# Altium integrated library o149086v243 Altium_WE-XTAL (rev19c).IntLib: 299 symbols (part 3 of 5)
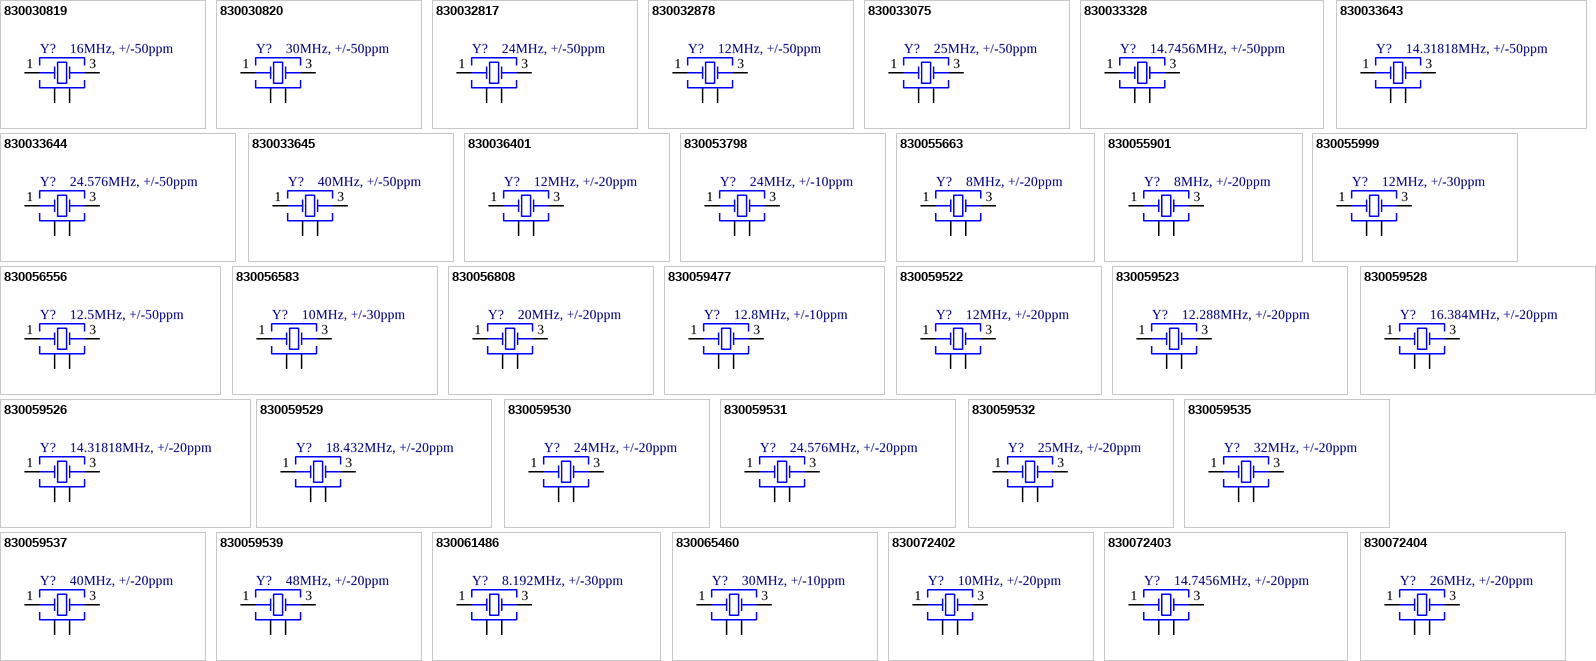
[diagram p18: symbols 830030819 to 830072404]

## 830033644
designator Y?, comment 24.576MHz, +/-50ppm
WE-XTAL Quartz Crystal, SMT, CFPX-104, 24.576MHz, +/-50ppm; Part Number: 830033644; Load Capacitance: 18pF; ComponentLink1Description: Manufacturer; ComponentLink1URL: http://www.we-online.de; ComponentLink2Description: Datasheet; ComponentLink2URL: https://katalog.we-online.com/pbs/datasheet/830033644.pdf; Operating Temperature: -10 to +60degC; Packaging: Tape and Reel; Published Date: November 2019; Size: CFPX-104; Frequency Stability: +/-50ppm; Frequency: 24.576MHz; Frequency Tolerance: +/-50ppm; Mounting Technology: SMT; Publisher: Wurth Elektronik
footprint WE-XTAL_CFPX-104
pins: 1 Crystal, 2 GND & Lid, 3 Crystal, 4 GND & Lid

## 830033645
designator Y?, comment 40MHz, +/-50ppm
WE-XTAL Quartz Crystal, SMT, CFPX-104, 40MHz, +/-50ppm; Part Number: 830033645; Load Capacitance: 18pF; ComponentLink1Description: Manufacturer; ComponentLink1URL: http://www.we-online.de; ComponentLink2Description: Datasheet; ComponentLink2URL: https://katalog.we-online.com/pbs/datasheet/830033645.pdf; Operating Temperature: -10 to +60degC; Packaging: Tape and Reel; Published Date: November 2019; Size: CFPX-104; Frequency Stability: +/-50ppm; Frequency: 40MHz; Frequency Tolerance: +/-50ppm; Mounting Technology: SMT; Publisher: Wurth Elektronik
footprint WE-XTAL_CFPX-104
pins: 1 Crystal, 2 GND & Lid, 3 Crystal, 4 GND & Lid

## 830036401
designator Y?, comment 12MHz, +/-20ppm
WE-XTAL Quartz Crystal, SMT, CFPX-104, 12MHz, +/-20ppm; Part Number: 830036401; Frequency Stability: +/-50ppm; Load Capacitance: 18pF; ComponentLink1Description: Manufacturer; ComponentLink1URL: http://www.we-online.de; ComponentLink2Description: Datasheet; ComponentLink2URL: https://katalog.we-online.com/pbs/datasheet/830036401.pdf; Operating Temperature: -20 to +70degC; Packaging: Tape and Reel; Published Date: November 2019; Size: CFPX-104; Frequency: 12MHz; Frequency Tolerance: +/-20ppm; Mounting Technology: SMT; Publisher: Wurth Elektronik
footprint WE-XTAL_CFPX-104
pins: 1 Crystal, 2 GND & Lid, 3 Crystal, 4 GND & Lid

## 830053798
designator Y?, comment 24MHz, +/-10ppm
WE-XTAL Quartz Crystal, SMT, CFPX-104, 24MHz, +/-10ppm; Part Number: 830053798; Frequency Stability: +/-25ppm; Load Capacitance: 18pF; ComponentLink1Description: Manufacturer; ComponentLink1URL: http://www.we-online.de; ComponentLink2Description: Datasheet; ComponentLink2URL: https://katalog.we-online.com/pbs/datasheet/830053798.pdf; Operating Temperature: -40 to +85degC; Packaging: Tape and Reel; Published Date: November 2019; Size: CFPX-104; Frequency: 24MHz; Frequency Tolerance: +/-10ppm; Mounting Technology: SMT; Publisher: Wurth Elektronik
footprint WE-XTAL_CFPX-104
pins: 1 Crystal, 2 GND & Lid, 3 Crystal, 4 GND & Lid

## 830055663
designator Y?, comment 8MHz, +/-20ppm
WE-XTAL Quartz Crystal, SMT, CFPX-104, 8MHz, +/-20ppm; Part Number: 830055663; Frequency Stability: +/-30ppm; Load Capacitance: 18pF; ComponentLink1Description: Manufacturer; ComponentLink1URL: http://www.we-online.de; ComponentLink2Description: Datasheet; ComponentLink2URL: https://katalog.we-online.com/pbs/datasheet/830055663.pdf; Operating Temperature: -40 to +85degC; Packaging: Tape and Reel; Published Date: November 2019; Size: CFPX-104; Frequency: 8MHz; Frequency Tolerance: +/-20ppm; Mounting Technology: SMT; Publisher: Wurth Elektronik
footprint WE-XTAL_CFPX-104
pins: 1 Crystal, 2 GND & Lid, 3 Crystal, 4 GND & Lid

## 830055901
designator Y?, comment 8MHz, +/-20ppm
WE-XTAL Quartz Crystal, SMT, CFPX-104, 8MHz, +/-20ppm; Part Number: 830055901; Frequency Stability: +/-50ppm; Load Capacitance: 18pF; ComponentLink1Description: Manufacturer; ComponentLink1URL: http://www.we-online.de; ComponentLink2Description: Datasheet; ComponentLink2URL: https://katalog.we-online.com/pbs/datasheet/830055901.pdf; Operating Temperature: -20 to +70degC; Packaging: Tape and Reel; Published Date: November 2019; Size: CFPX-104; Frequency: 8MHz; Frequency Tolerance: +/-20ppm; Mounting Technology: SMT; Publisher: Wurth Elektronik
footprint WE-XTAL_CFPX-104
pins: 1 Crystal, 2 GND & Lid, 3 Crystal, 4 GND & Lid

## 830055999
designator Y?, comment 12MHz, +/-30ppm
WE-XTAL Quartz Crystal, SMT, CFPX-104, 12MHz, +/-30ppm; Part Number: 830055999; Load Capacitance: 18pF; ComponentLink1Description: Manufacturer; ComponentLink1URL: http://www.we-online.de; ComponentLink2Description: Datasheet; ComponentLink2URL: https://katalog.we-online.com/pbs/datasheet/830055999.pdf; Operating Temperature: -40 to +85degC; Packaging: Tape and Reel; Published Date: November 2019; Size: CFPX-104; Frequency Stability: +/-30ppm; Frequency: 12MHz; Frequency Tolerance: +/-30ppm; Mounting Technology: SMT; Publisher: Wurth Elektronik
footprint WE-XTAL_CFPX-104
pins: 1 Crystal, 2 GND & Lid, 3 Crystal, 4 GND & Lid

## 830056556
designator Y?, comment 12.5MHz, +/-50ppm
WE-XTAL Quartz Crystal, SMT, CFPX-104, 12.5MHz, +/-50ppm; Part Number: 830056556; Load Capacitance: 18pF; ComponentLink1Description: Manufacturer; ComponentLink1URL: http://www.we-online.de; ComponentLink2Description: Datasheet; ComponentLink2URL: https://katalog.we-online.com/pbs/datasheet/830056556.pdf; Operating Temperature: -40 to +85degC; Packaging: Tape and Reel; Published Date: November 2019; Size: CFPX-104; Frequency Stability: +/-50ppm; Frequency: 12.5MHz; Frequency Tolerance: +/-50ppm; Mounting Technology: SMT; Publisher: Wurth Elektronik
footprint WE-XTAL_CFPX-104
pins: 1 Crystal, 2 GND & Lid, 3 Crystal, 4 GND & Lid

## 830056583
designator Y?, comment 10MHz, +/-30ppm
WE-XTAL Quartz Crystal, SMT, CFPX-104, 10MHz, +/-30ppm; Part Number: 830056583; Load Capacitance: 12pF; ComponentLink1Description: Manufacturer; ComponentLink1URL: http://www.we-online.de; ComponentLink2Description: Datasheet; ComponentLink2URL: https://katalog.we-online.com/pbs/datasheet/830056583.pdf; Operating Temperature: -40 to +85degC; Packaging: Tape and Reel; Published Date: November 2019; Size: CFPX-104; Frequency Stability: +/-30ppm; Frequency: 10MHz; Frequency Tolerance: +/-30ppm; Mounting Technology: SMT; Publisher: Wurth Elektronik
footprint WE-XTAL_CFPX-104
pins: 1 Crystal, 2 GND & Lid, 3 Crystal, 4 GND & Lid

## 830056808
designator Y?, comment 20MHz, +/-20ppm
WE-XTAL Quartz Crystal, SMT, CFPX-104, 20MHz, +/-20ppm; Part Number: 830056808; Frequency Stability: +/-30ppm; Load Capacitance: 18pF; ComponentLink1Description: Manufacturer; ComponentLink1URL: http://www.we-online.de; ComponentLink2Description: Datasheet; ComponentLink2URL: https://katalog.we-online.com/pbs/datasheet/830056808.pdf; Operating Temperature: -40 to +85degC; Packaging: Tape and Reel; Published Date: November 2019; Size: CFPX-104; Frequency: 20MHz; Frequency Tolerance: +/-20ppm; Mounting Technology: SMT; Publisher: Wurth Elektronik
footprint WE-XTAL_CFPX-104
pins: 1 Crystal, 2 GND & Lid, 3 Crystal, 4 GND & Lid

## 830059477
designator Y?, comment 12.8MHz, +/-10ppm
WE-XTAL Quartz Crystal, SMT, CFPX-104, 12.8MHz, +/-10ppm; Part Number: 830059477; Frequency Stability: +/-20ppm; Load Capacitance: 15pF; ComponentLink1Description: Manufacturer; ComponentLink1URL: http://www.we-online.de; ComponentLink2Description: Datasheet; ComponentLink2URL: https://katalog.we-online.com/pbs/datasheet/830059477.pdf; Operating Temperature: -40 to +85degC; Packaging: Tape and Reel; Published Date: November 2019; Size: CFPX-104; Frequency: 12.8MHz; Frequency Tolerance: +/-10ppm; Mounting Technology: SMT; Publisher: Wurth Elektronik
footprint WE-XTAL_CFPX-104
pins: 1 Crystal, 2 GND & Lid, 3 Crystal, 4 GND & Lid

## 830059522
designator Y?, comment 12MHz, +/-20ppm
WE-XTAL Quartz Crystal, SMT, CFPX-104, 12MHz, +/-20ppm; Part Number: 830059522; Frequency Stability: +/-30ppm; Load Capacitance: 18pF; ComponentLink1Description: Manufacturer; ComponentLink1URL: http://www.we-online.de; ComponentLink2Description: Datasheet; ComponentLink2URL: https://katalog.we-online.com/pbs/datasheet/830059522.pdf; Operating Temperature: -40 to +85degC; Packaging: Tape and Reel; Published Date: November 2019; Size: CFPX-104; Frequency: 12MHz; Frequency Tolerance: +/-20ppm; Mounting Technology: SMT; Publisher: Wurth Elektronik
footprint WE-XTAL_CFPX-104
pins: 1 Crystal, 2 GND & Lid, 3 Crystal, 4 GND & Lid

## 830059523
designator Y?, comment 12.288MHz, +/-20ppm
WE-XTAL Quartz Crystal, SMT, CFPX-104, 12.288MHz, +/-20ppm; Part Number: 830059523; Frequency Stability: +/-30ppm; Load Capacitance: 18pF; ComponentLink1Description: Manufacturer; ComponentLink1URL: http://www.we-online.de; ComponentLink2Description: Datasheet; ComponentLink2URL: https://katalog.we-online.com/pbs/datasheet/830059523.pdf; Operating Temperature: -40 to +85degC; Packaging: Tape and Reel; Published Date: November 2019; Size: CFPX-104; Frequency: 12.288MHz; Frequency Tolerance: +/-20ppm; Mounting Technology: SMT; Publisher: Wurth Elektronik
footprint WE-XTAL_CFPX-104
pins: 1 Crystal, 2 GND & Lid, 3 Crystal, 4 GND & Lid

## 830059526
designator Y?, comment 14.31818MHz, +/-20ppm
WE-XTAL Quartz Crystal, SMT, CFPX-104, 14.31818MHz, +/-20ppm; Part Number: 830059526; Frequency Stability: +/-30ppm; Load Capacitance: 18pF; ComponentLink1Description: Manufacturer; ComponentLink1URL: http://www.we-online.de; ComponentLink2Description: Datasheet; ComponentLink2URL: https://katalog.we-online.com/pbs/datasheet/830059526.pdf; Operating Temperature: -40 to +85degC; Packaging: Tape and Reel; Published Date: November 2019; Size: CFPX-104; Frequency: 14.31818MHz; Frequency Tolerance: +/-20ppm; Mounting Technology: SMT; Publisher: Wurth Elektronik
footprint WE-XTAL_CFPX-104
pins: 1 Crystal, 2 GND & Lid, 3 Crystal, 4 GND & Lid

## 830059528
designator Y?, comment 16.384MHz, +/-20ppm
WE-XTAL Quartz Crystal, SMT, CFPX-104, 16.384MHz, +/-20ppm; Part Number: 830059528; Frequency Stability: +/-30ppm; Load Capacitance: 18pF; ComponentLink1Description: Manufacturer; ComponentLink1URL: http://www.we-online.de; ComponentLink2Description: Datasheet; ComponentLink2URL: https://katalog.we-online.com/pbs/datasheet/830059528.pdf; Operating Temperature: -40 to +85degC; Packaging: Tape and Reel; Published Date: November 2019; Size: CFPX-104; Frequency: 16.384MHz; Frequency Tolerance: +/-20ppm; Mounting Technology: SMT; Publisher: Wurth Elektronik
footprint WE-XTAL_CFPX-104
pins: 1 Crystal, 2 GND & Lid, 3 Crystal, 4 GND & Lid

## 830059529
designator Y?, comment 18.432MHz, +/-20ppm
WE-XTAL Quartz Crystal, SMT, CFPX-104, 18.432MHz, +/-20ppm; Part Number: 830059529; Frequency Stability: +/-30ppm; Load Capacitance: 18pF; ComponentLink1Description: Manufacturer; ComponentLink1URL: http://www.we-online.de; ComponentLink2Description: Datasheet; ComponentLink2URL: https://katalog.we-online.com/pbs/datasheet/830059529.pdf; Operating Temperature: -40 to +85degC; Packaging: Tape and Reel; Published Date: November 2019; Size: CFPX-104; Frequency: 18.432MHz; Frequency Tolerance: +/-20ppm; Mounting Technology: SMT; Publisher: Wurth Elektronik
footprint WE-XTAL_CFPX-104
pins: 1 Crystal, 2 GND & Lid, 3 Crystal, 4 GND & Lid

## 830059530
designator Y?, comment 24MHz, +/-20ppm
WE-XTAL Quartz Crystal, SMT, CFPX-104, 24MHz, +/-20ppm; Part Number: 830059530; Frequency Stability: +/-30ppm; Load Capacitance: 18pF; ComponentLink1Description: Manufacturer; ComponentLink1URL: http://www.we-online.de; ComponentLink2Description: Datasheet; ComponentLink2URL: https://katalog.we-online.com/pbs/datasheet/830059530.pdf; Operating Temperature: -40 to +85degC; Packaging: Tape and Reel; Published Date: November 2019; Size: CFPX-104; Frequency: 24MHz; Frequency Tolerance: +/-20ppm; Mounting Technology: SMT; Publisher: Wurth Elektronik
footprint WE-XTAL_CFPX-104
pins: 1 Crystal, 2 GND & Lid, 3 Crystal, 4 GND & Lid

## 830059531
designator Y?, comment 24.576MHz, +/-20ppm
WE-XTAL Quartz Crystal, SMT, CFPX-104, 24.576MHz, +/-20ppm; Part Number: 830059531; Frequency Stability: +/-30ppm; Load Capacitance: 18pF; ComponentLink1Description: Manufacturer; ComponentLink1URL: http://www.we-online.de; ComponentLink2Description: Datasheet; ComponentLink2URL: https://katalog.we-online.com/pbs/datasheet/830059531.pdf; Operating Temperature: -40 to +85degC; Packaging: Tape and Reel; Published Date: November 2019; Size: CFPX-104; Frequency: 24.576MHz; Frequency Tolerance: +/-20ppm; Mounting Technology: SMT; Publisher: Wurth Elektronik
footprint WE-XTAL_CFPX-104
pins: 1 Crystal, 2 GND & Lid, 3 Crystal, 4 GND & Lid

## 830059532
designator Y?, comment 25MHz, +/-20ppm
WE-XTAL Quartz Crystal, SMT, CFPX-104, 25MHz, +/-20ppm; Part Number: 830059532; Frequency Stability: +/-30ppm; Load Capacitance: 18pF; ComponentLink1Description: Manufacturer; ComponentLink1URL: http://www.we-online.de; ComponentLink2Description: Datasheet; ComponentLink2URL: https://katalog.we-online.com/pbs/datasheet/830059532.pdf; Operating Temperature: -40 to +85degC; Packaging: Tape and Reel; Published Date: November 2019; Size: CFPX-104; Frequency: 25MHz; Frequency Tolerance: +/-20ppm; Mounting Technology: SMT; Publisher: Wurth Elektronik
footprint WE-XTAL_CFPX-104
pins: 1 Crystal, 2 GND & Lid, 3 Crystal, 4 GND & Lid

## 830059535
designator Y?, comment 32MHz, +/-20ppm
WE-XTAL Quartz Crystal, SMT, CFPX-104, 32MHz, +/-20ppm; Part Number: 830059535; Frequency Stability: +/-30ppm; Load Capacitance: 18pF; ComponentLink1Description: Manufacturer; ComponentLink1URL: http://www.we-online.de; ComponentLink2Description: Datasheet; ComponentLink2URL: https://katalog.we-online.com/pbs/datasheet/830059535.pdf; Operating Temperature: -40 to +85degC; Packaging: Tape and Reel; Published Date: November 2019; Size: CFPX-104; Frequency: 32MHz; Frequency Tolerance: +/-20ppm; Mounting Technology: SMT; Publisher: Wurth Elektronik
footprint WE-XTAL_CFPX-104
pins: 1 Crystal, 2 GND & Lid, 3 Crystal, 4 GND & Lid

## 830059537
designator Y?, comment 40MHz, +/-20ppm
WE-XTAL Quartz Crystal, SMT, CFPX-104, 40MHz, +/-20ppm; Part Number: 830059537; Frequency Stability: +/-30ppm; Load Capacitance: 18pF; ComponentLink1Description: Manufacturer; ComponentLink1URL: http://www.we-online.de; ComponentLink2Description: Datasheet; ComponentLink2URL: https://katalog.we-online.com/pbs/datasheet/830059537.pdf; Operating Temperature: -40 to +85degC; Packaging: Tape and Reel; Published Date: November 2019; Size: CFPX-104; Frequency: 40MHz; Frequency Tolerance: +/-20ppm; Mounting Technology: SMT; Publisher: Wurth Elektronik
footprint WE-XTAL_CFPX-104
pins: 1 Crystal, 2 GND & Lid, 3 Crystal, 4 GND & Lid

## 830059539
designator Y?, comment 48MHz, +/-20ppm
WE-XTAL Quartz Crystal, SMT, CFPX-104, 48MHz, +/-20ppm; Part Number: 830059539; Frequency Stability: +/-30ppm; Load Capacitance: 18pF; ComponentLink1Description: Manufacturer; ComponentLink1URL: http://www.we-online.de; ComponentLink2Description: Datasheet; ComponentLink2URL: https://katalog.we-online.com/pbs/datasheet/830059539.pdf; Operating Temperature: -40 to +85degC; Packaging: Tape and Reel; Published Date: November 2019; Size: CFPX-104; Frequency: 48MHz; Frequency Tolerance: +/-20ppm; Mounting Technology: SMT; Publisher: Wurth Elektronik
footprint WE-XTAL_CFPX-104 (Quartz Crystal, size CFPX-104, body 5x3.2mm)
pins: 1 Crystal, 2 GND & Lid, 3 Crystal, 4 GND & Lid

## 830061486
designator Y?, comment 8.192MHz, +/-30ppm
WE-XTAL Quartz Crystal, SMT, CFPX-104, 8.192MHz, +/-30ppm; Part Number: 830061486; Frequency Stability: +/-50ppm; Load Capacitance: 10pF; ComponentLink1Description: Manufacturer; ComponentLink1URL: http://www.we-online.de; ComponentLink2Description: Datasheet; ComponentLink2URL: https://katalog.we-online.com/pbs/datasheet/830061486.pdf; Operating Temperature: -40 to +85degC; Packaging: Tape and Reel; Published Date: November 2019; Size: CFPX-104; Frequency: 8.192MHz; Frequency Tolerance: +/-30ppm; Mounting Technology: SMT; Publisher: Wurth Elektronik
footprint WE-XTAL_CFPX-104
pins: 1 Crystal, 2 GND & Lid, 3 Crystal, 4 GND & Lid

## 830065460
designator Y?, comment 30MHz, +/-10ppm
WE-XTAL Quartz Crystal, SMT, CFPX-104, 30MHz, +/-10ppm; Part Number: 830065460; Frequency Stability: +/-20ppm; Load Capacitance: 10pF; ComponentLink1Description: Manufacturer; ComponentLink1URL: http://www.we-online.de; ComponentLink2Description: Datasheet; ComponentLink2URL: https://katalog.we-online.com/pbs/datasheet/830065460.pdf; Operating Temperature: -40 to +85degC; Packaging: Tape and Reel; Published Date: November 2019; Size: CFPX-104; Frequency: 30MHz; Frequency Tolerance: +/-10ppm; Mounting Technology: SMT; Publisher: Wurth Elektronik
footprint WE-XTAL_CFPX-104
pins: 1 Crystal, 2 GND & Lid, 3 Crystal, 4 GND & Lid

## 830072402
designator Y?, comment 10MHz, +/-20ppm
WE-XTAL Quartz Crystal, SMT, CFPX-104, 10MHz, +/-20ppm; Part Number: 830072402; Frequency Stability: +/-30ppm; Load Capacitance: 18pF; ComponentLink1Description: Manufacturer; ComponentLink1URL: http://www.we-online.de; ComponentLink2Description: Datasheet; ComponentLink2URL: https://katalog.we-online.com/pbs/datasheet/830072402.pdf; Operating Temperature: -40 to +85degC; Packaging: Tape and Reel; Published Date: November 2019; Size: CFPX-104; Frequency: 10MHz; Frequency Tolerance: +/-20ppm; Mounting Technology: SMT; Publisher: Wurth Elektronik
footprint WE-XTAL_CFPX-104
pins: 1 Crystal, 2 GND & Lid, 3 Crystal, 4 GND & Lid

## 830072403
designator Y?, comment 14.7456MHz, +/-20ppm
WE-XTAL Quartz Crystal, SMT, CFPX-104, 14.7456MHz, +/-20ppm; Part Number: 830072403; Frequency Stability: +/-30ppm; Load Capacitance: 18pF; ComponentLink1Description: Manufacturer; ComponentLink1URL: http://www.we-online.de; ComponentLink2Description: Datasheet; ComponentLink2URL: https://katalog.we-online.com/pbs/datasheet/830072403.pdf; Operating Temperature: -40 to +85degC; Packaging: Tape and Reel; Published Date: November 2019; Size: CFPX-104; Frequency: 14.7456MHz; Frequency Tolerance: +/-20ppm; Mounting Technology: SMT; Publisher: Wurth Elektronik
footprint WE-XTAL_CFPX-104
pins: 1 Crystal, 2 GND & Lid, 3 Crystal, 4 GND & Lid

## 830072404
designator Y?, comment 26MHz, +/-20ppm
WE-XTAL Quartz Crystal, SMT, CFPX-104, 26MHz, +/-20ppm; Part Number: 830072404; Frequency Stability: +/-30ppm; Load Capacitance: 18pF; ComponentLink1Description: Manufacturer; ComponentLink1URL: http://www.we-online.de; ComponentLink2Description: Datasheet; ComponentLink2URL: https://katalog.we-online.com/pbs/datasheet/830072404.pdf; Operating Temperature: -40 to +85degC; Packaging: Tape and Reel; Published Date: November 2019; Size: CFPX-104; Frequency: 26MHz; Frequency Tolerance: +/-20ppm; Mounting Technology: SMT; Publisher: Wurth Elektronik
footprint WE-XTAL_CFPX-104
pins: 1 Crystal, 2 GND & Lid, 3 Crystal, 4 GND & Lid


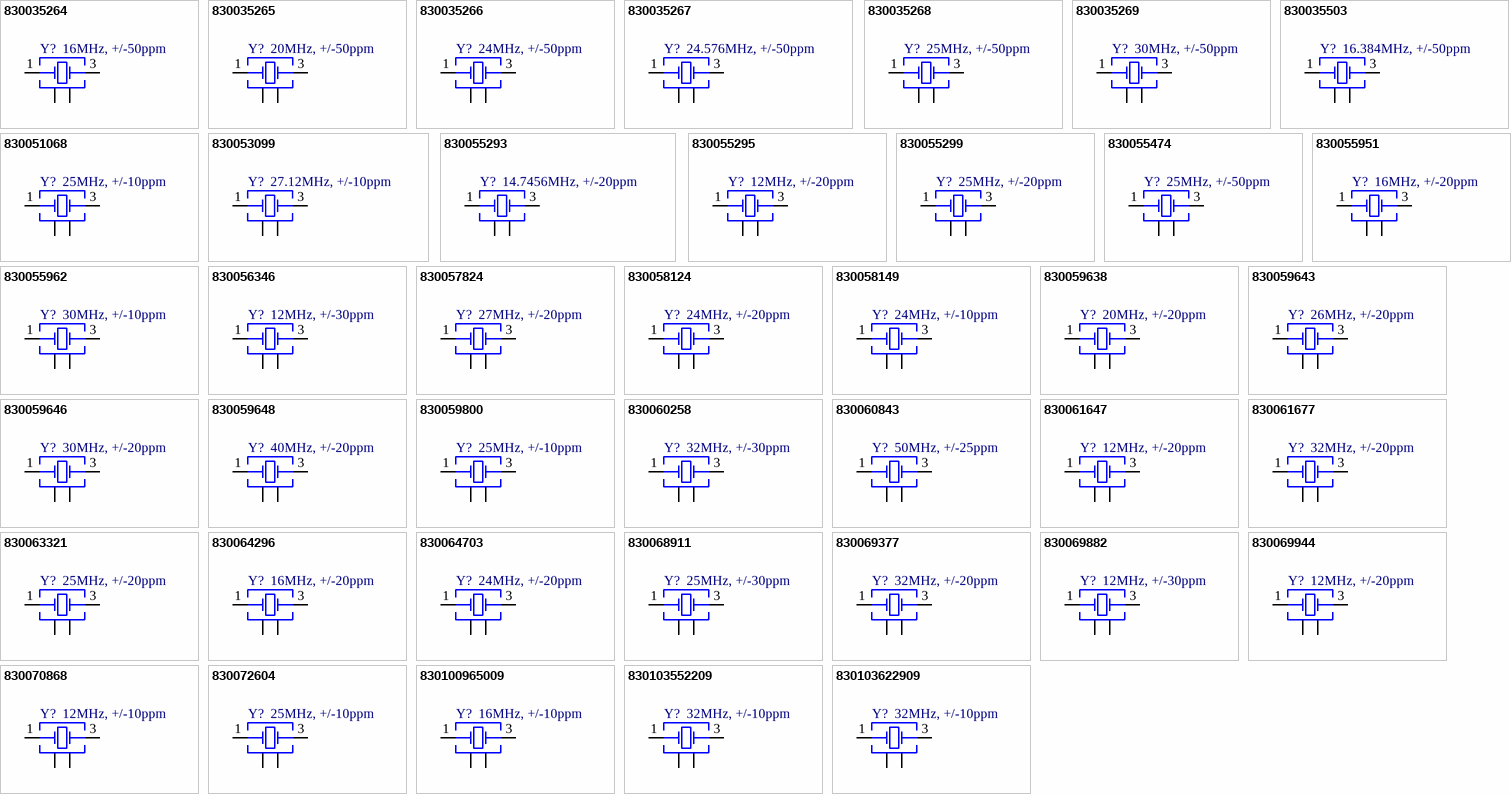
[diagram p10: symbols 830035264 to 830103622909]

## 830035264
designator Y?, comment 16MHz, +/-50ppm
WE-XTAL Quartz Crystal, SMT, CFPX-180, 16MHz, +/-50ppm; Part Number: 830035264; Load Capacitance: 16pF; ComponentLink1Description: Manufacturer; ComponentLink1URL: http://www.we-online.de; ComponentLink2Description: Datasheet; ComponentLink2URL: https://katalog.we-online.com/pbs/datasheet/830035264.pdf; Operating Temperature: -10 to +60degC; Packaging: Tape and Reel; Published Date: November 2019; Size: CFPX-180; Frequency Stability: +/-50ppm; Frequency: 16MHz; Frequency Tolerance: +/-50ppm; Mounting Technology: SMT; Publisher: Wurth Elektronik
footprint WE-XTAL_CFPX-180
pins: 1 Crystal, 2 GND, 3 Crystal, 4 GND

## 830035265
designator Y?, comment 20MHz, +/-50ppm
WE-XTAL Quartz Crystal, SMT, CFPX-180, 20MHz, +/-50ppm; Part Number: 830035265; Load Capacitance: 16pF; ComponentLink1Description: Manufacturer; ComponentLink1URL: http://www.we-online.de; ComponentLink2Description: Datasheet; ComponentLink2URL: https://katalog.we-online.com/pbs/datasheet/830035265.pdf; Operating Temperature: -10 to +60degC; Packaging: Tape and Reel; Published Date: November 2019; Size: CFPX-180; Frequency Stability: +/-50ppm; Frequency: 20MHz; Frequency Tolerance: +/-50ppm; Mounting Technology: SMT; Publisher: Wurth Elektronik
footprint WE-XTAL_CFPX-180
pins: 1 Crystal, 2 GND, 3 Crystal, 4 GND

## 830035266
designator Y?, comment 24MHz, +/-50ppm
WE-XTAL Quartz Crystal, SMT, CFPX-180, 24MHz, +/-50ppm; Part Number: 830035266; Load Capacitance: 16pF; ComponentLink1Description: Manufacturer; ComponentLink1URL: http://www.we-online.de; ComponentLink2Description: Datasheet; ComponentLink2URL: https://katalog.we-online.com/pbs/datasheet/830035266.pdf; Operating Temperature: -10 to +60degC; Packaging: Tape and Reel; Published Date: November 2019; Size: CFPX-180; Frequency Stability: +/-50ppm; Frequency: 24MHz; Frequency Tolerance: +/-50ppm; Mounting Technology: SMT; Publisher: Wurth Elektronik
footprint WE-XTAL_CFPX-180
pins: 1 Crystal, 2 GND, 3 Crystal, 4 GND

## 830035267
designator Y?, comment 24.576MHz, +/-50ppm
WE-XTAL Quartz Crystal, SMT, CFPX-180, 24.576MHz, +/-50ppm; Part Number: 830035267; Load Capacitance: 16pF; ComponentLink1Description: Manufacturer; ComponentLink1URL: http://www.we-online.de; ComponentLink2Description: Datasheet; ComponentLink2URL: https://katalog.we-online.com/pbs/datasheet/830035267.pdf; Operating Temperature: -10 to +60degC; Packaging: Tape and Reel; Published Date: November 2019; Size: CFPX-180; Frequency Stability: +/-50ppm; Frequency: 24.576MHz; Frequency Tolerance: +/-50ppm; Mounting Technology: SMT; Publisher: Wurth Elektronik
footprint WE-XTAL_CFPX-180
pins: 1 Crystal, 2 GND, 3 Crystal, 4 GND

## 830035268
designator Y?, comment 25MHz, +/-50ppm
WE-XTAL Quartz Crystal, SMT, CFPX-180, 25MHz, +/-50ppm; Part Number: 830035268; Load Capacitance: 16pF; ComponentLink1Description: Manufacturer; ComponentLink1URL: http://www.we-online.de; ComponentLink2Description: Datasheet; ComponentLink2URL: https://katalog.we-online.com/pbs/datasheet/830035268.pdf; Operating Temperature: -10 to +60degC; Packaging: Tape and Reel; Published Date: November 2019; Size: CFPX-180; Frequency Stability: +/-50ppm; Frequency: 25MHz; Frequency Tolerance: +/-50ppm; Mounting Technology: SMT; Publisher: Wurth Elektronik
footprint WE-XTAL_CFPX-180
pins: 1 Crystal, 2 GND, 3 Crystal, 4 GND

## 830035269
designator Y?, comment 30MHz, +/-50ppm
WE-XTAL Quartz Crystal, SMT, CFPX-180, 30MHz, +/-50ppm; Part Number: 830035269; Load Capacitance: 16pF; ComponentLink1Description: Manufacturer; ComponentLink1URL: http://www.we-online.de; ComponentLink2Description: Datasheet; ComponentLink2URL: https://katalog.we-online.com/pbs/datasheet/830035269.pdf; Operating Temperature: -10 to +60degC; Packaging: Tape and Reel; Published Date: November 2019; Size: CFPX-180; Frequency Stability: +/-50ppm; Frequency: 30MHz; Frequency Tolerance: +/-50ppm; Mounting Technology: SMT; Publisher: Wurth Elektronik
footprint WE-XTAL_CFPX-180
pins: 1 Crystal, 2 GND, 3 Crystal, 4 GND

## 830035503
designator Y?, comment 16.384MHz, +/-50ppm
WE-XTAL Quartz Crystal, SMT, CFPX-180, 16.384MHz, +/-50ppm; Part Number: 830035503; Load Capacitance: 16pF; ComponentLink1Description: Manufacturer; ComponentLink1URL: http://www.we-online.de; ComponentLink2Description: Datasheet; ComponentLink2URL: https://katalog.we-online.com/pbs/datasheet/830035503.pdf; Operating Temperature: -10 to +60degC; Packaging: Tape and Reel; Published Date: November 2019; Size: CFPX-180; Frequency Stability: +/-50ppm; Frequency: 16.384MHz; Frequency Tolerance: +/-50ppm; Mounting Technology: SMT; Publisher: Wurth Elektronik
footprint WE-XTAL_CFPX-180
pins: 1 Crystal, 2 GND, 3 Crystal, 4 GND

## 830051068
designator Y?, comment 25MHz, +/-10ppm
WE-XTAL Quartz Crystal, SMT, CFPX-180, 25MHz, +/-10ppm; Part Number: 830051068; Load Capacitance: 9pF; ComponentLink1Description: Manufacturer; ComponentLink1URL: http://www.we-online.de; ComponentLink2Description: Datasheet; ComponentLink2URL: https://katalog.we-online.com/pbs/datasheet/830051068.pdf; Operating Temperature: -20 to +70degC; Packaging: Tape and Reel; Published Date: November 2019; Size: CFPX-180; Frequency Stability: +/-10ppm; Frequency: 25MHz; Frequency Tolerance: +/-10ppm; Mounting Technology: SMT; Publisher: Wurth Elektronik
footprint WE-XTAL_CFPX-180
pins: 1 Crystal, 2 GND, 3 Crystal, 4 GND

## 830053099
designator Y?, comment 27.12MHz, +/-10ppm
WE-XTAL Quartz Crystal, SMT, CFPX-180, 27.12MHz, +/-10ppm; Part Number: 830053099; Load Capacitance: 10pF; ComponentLink1Description: Manufacturer; ComponentLink1URL: http://www.we-online.de; ComponentLink2Description: Datasheet; ComponentLink2URL: https://katalog.we-online.com/pbs/datasheet/830053099.pdf; Operating Temperature: -20 to +70degC; Packaging: Tape and Reel; Published Date: November 2019; Size: CFPX-180; Frequency Stability: +/-10ppm; Frequency: 27.12MHz; Frequency Tolerance: +/-10ppm; Mounting Technology: SMT; Publisher: Wurth Elektronik
footprint WE-XTAL_CFPX-180
pins: 1 Crystal, 2 GND, 3 Crystal, 4 GND

## 830055293
designator Y?, comment 14.7456MHz, +/-20ppm
WE-XTAL Quartz Crystal, SMT, CFPX-180, 14.7456MHz, +/-20ppm; Part Number: 830055293; Frequency Stability: +/-30ppm; Load Capacitance: 18pF; ComponentLink1Description: Manufacturer; ComponentLink1URL: http://www.we-online.de; ComponentLink2Description: Datasheet; ComponentLink2URL: https://katalog.we-online.com/pbs/datasheet/830055293.pdf; Operating Temperature: -40 to +85degC; Packaging: Tape and Reel; Published Date: November 2019; Size: CFPX-180; Frequency: 14.7456MHz; Frequency Tolerance: +/-20ppm; Mounting Technology: SMT; Publisher: Wurth Elektronik
footprint WE-XTAL_CFPX-180
pins: 1 Crystal, 2 GND, 3 Crystal, 4 GND

## 830055295
designator Y?, comment 12MHz, +/-20ppm
WE-XTAL Quartz Crystal, SMT, CFPX-180, 12MHz, +/-20ppm; Part Number: 830055295; Frequency Stability: +/-30ppm; Load Capacitance: 18pF; ComponentLink1Description: Manufacturer; ComponentLink1URL: http://www.we-online.de; ComponentLink2Description: Datasheet; ComponentLink2URL: https://katalog.we-online.com/pbs/datasheet/830055295.pdf; Operating Temperature: -40 to +85degC; Packaging: Tape and Reel; Published Date: November 2019; Size: CFPX-180; Frequency: 12MHz; Frequency Tolerance: +/-20ppm; Mounting Technology: SMT; Publisher: Wurth Elektronik
footprint WE-XTAL_CFPX-180
pins: 1 Crystal, 2 GND, 3 Crystal, 4 GND

## 830055299
designator Y?, comment 25MHz, +/-20ppm
WE-XTAL Quartz Crystal, SMT, CFPX-180, 25MHz, +/-20ppm; Part Number: 830055299; Frequency Stability: +/-30ppm; Load Capacitance: 18pF; ComponentLink1Description: Manufacturer; ComponentLink1URL: http://www.we-online.de; ComponentLink2Description: Datasheet; ComponentLink2URL: https://katalog.we-online.com/pbs/datasheet/830055299.pdf; Operating Temperature: -40 to +85degC; Packaging: Tape and Reel; Published Date: November 2019; Size: CFPX-180; Frequency: 25MHz; Frequency Tolerance: +/-20ppm; Mounting Technology: SMT; Publisher: Wurth Elektronik
footprint WE-XTAL_CFPX-180
pins: 1 Crystal, 2 GND, 3 Crystal, 4 GND

## 830055474
designator Y?, comment 25MHz, +/-50ppm
WE-XTAL Quartz Crystal, SMT, CFPX-180, 25MHz, +/-50ppm; Part Number: 830055474; Load Capacitance: 16pF; ComponentLink1Description: Manufacturer; ComponentLink1URL: http://www.we-online.de; ComponentLink2Description: Datasheet; ComponentLink2URL: https://katalog.we-online.com/pbs/datasheet/830055474.pdf; Operating Temperature: -40 to +85degC; Packaging: Tape and Reel; Published Date: November 2019; Size: CFPX-180; Frequency Stability: +/-50ppm; Frequency: 25MHz; Frequency Tolerance: +/-50ppm; Mounting Technology: SMT; Publisher: Wurth Elektronik
footprint WE-XTAL_CFPX-180
pins: 1 Crystal, 2 GND, 3 Crystal, 4 GND

## 830055951
designator Y?, comment 16MHz, +/-20ppm
WE-XTAL Quartz Crystal, SMT, CFPX-180, 16MHz, +/-20ppm; Part Number: 830055951; Frequency Stability: +/-30ppm; Load Capacitance: 18pF; ComponentLink1Description: Manufacturer; ComponentLink1URL: http://www.we-online.de; ComponentLink2Description: Datasheet; ComponentLink2URL: https://katalog.we-online.com/pbs/datasheet/830055951.pdf; Operating Temperature: -40 to +85degC; Packaging: Tape and Reel; Published Date: November 2019; Size: CFPX-180; Frequency: 16MHz; Frequency Tolerance: +/-20ppm; Mounting Technology: SMT; Publisher: Wurth Elektronik
footprint WE-XTAL_CFPX-180
pins: 1 Crystal, 2 GND, 3 Crystal, 4 GND

## 830055962
designator Y?, comment 30MHz, +/-10ppm
WE-XTAL Quartz Crystal, SMT, CFPX-180, 30MHz, +/-10ppm; Part Number: 830055962; Load Capacitance: 12pF; ComponentLink1Description: Manufacturer; ComponentLink1URL: http://www.we-online.de; ComponentLink2Description: Datasheet; ComponentLink2URL: https://katalog.we-online.com/pbs/datasheet/830055962.pdf; Operating Temperature: -10 to +60degC; Packaging: Tape and Reel; Published Date: November 2019; Size: CFPX-180; Frequency Stability: +/-10ppm; Frequency: 30MHz; Frequency Tolerance: +/-10ppm; Mounting Technology: SMT; Publisher: Wurth Elektronik
footprint WE-XTAL_CFPX-180
pins: 1 Crystal, 2 GND, 3 Crystal, 4 GND

## 830056346
designator Y?, comment 12MHz, +/-30ppm
WE-XTAL Quartz Crystal, SMT, CFPX-180, 12MHz, +/-30ppm; Part Number: 830056346; Load Capacitance: 18pF; ComponentLink1Description: Manufacturer; ComponentLink1URL: http://www.we-online.de; ComponentLink2Description: Datasheet; ComponentLink2URL: https://katalog.we-online.com/pbs/datasheet/830056346.pdf; Operating Temperature: -40 to +85degC; Packaging: Tape and Reel; Published Date: November 2019; Size: CFPX-180; Frequency Stability: +/-30ppm; Frequency: 12MHz; Frequency Tolerance: +/-30ppm; Mounting Technology: SMT; Publisher: Wurth Elektronik
footprint WE-XTAL_CFPX-180
pins: 1 Crystal, 2 GND, 3 Crystal, 4 GND

## 830057824
designator Y?, comment 27MHz, +/-20ppm
WE-XTAL Quartz Crystal, SMT, CFPX-180, 27MHz, +/-20ppm; Part Number: 830057824; Frequency Stability: +/-30ppm; Load Capacitance: 18pF; ComponentLink1Description: Manufacturer; ComponentLink1URL: http://www.we-online.de; ComponentLink2Description: Datasheet; ComponentLink2URL: https://katalog.we-online.com/pbs/datasheet/830057824.pdf; Operating Temperature: -40 to +85degC; Packaging: Tape and Reel; Published Date: November 2019; Size: CFPX-180; Frequency: 27MHz; Frequency Tolerance: +/-20ppm; Mounting Technology: SMT; Publisher: Wurth Elektronik
footprint WE-XTAL_CFPX-180
pins: 1 Crystal, 2 GND, 3 Crystal, 4 GND

## 830058124
designator Y?, comment 24MHz, +/-20ppm
WE-XTAL Quartz Crystal, SMT, CFPX-180, 24MHz, +/-20ppm; Part Number: 830058124; Frequency Stability: +/-30ppm; Load Capacitance: 18pF; ComponentLink1Description: Manufacturer; ComponentLink1URL: http://www.we-online.de; ComponentLink2Description: Datasheet; ComponentLink2URL: https://katalog.we-online.com/pbs/datasheet/830058124.pdf; Operating Temperature: -40 to +85degC; Packaging: Tape and Reel; Published Date: November 2019; Size: CFPX-180; Frequency: 24MHz; Frequency Tolerance: +/-20ppm; Mounting Technology: SMT; Publisher: Wurth Elektronik
footprint WE-XTAL_CFPX-180
pins: 1 Crystal, 2 GND, 3 Crystal, 4 GND

## 830058149
designator Y?, comment 24MHz, +/-10ppm
WE-XTAL Quartz Crystal, SMT, CFPX-180, 24MHz, +/-10ppm; Part Number: 830058149; Load Capacitance: 10pF; ComponentLink1Description: Manufacturer; ComponentLink1URL: http://www.we-online.de; ComponentLink2Description: Datasheet; ComponentLink2URL: https://katalog.we-online.com/pbs/datasheet/830058149.pdf; Operating Temperature: -20 to +70degC; Packaging: Tape and Reel; Published Date: November 2019; Size: CFPX-180; Frequency Stability: +/-10ppm; Frequency: 24MHz; Frequency Tolerance: +/-10ppm; Mounting Technology: SMT; Publisher: Wurth Elektronik
footprint WE-XTAL_CFPX-180
pins: 1 Crystal, 2 GND, 3 Crystal, 4 GND

## 830059638
designator Y?, comment 20MHz, +/-20ppm
WE-XTAL Quartz Crystal, SMT, CFPX-180, 20MHz, +/-20ppm; Part Number: 830059638; Frequency Stability: +/-30ppm; Load Capacitance: 18pF; ComponentLink1Description: Manufacturer; ComponentLink1URL: http://www.we-online.de; ComponentLink2Description: Datasheet; ComponentLink2URL: https://katalog.we-online.com/pbs/datasheet/830059638.pdf; Operating Temperature: -40 to +85degC; Packaging: Tape and Reel; Published Date: November 2019; Size: CFPX-180; Frequency: 20MHz; Frequency Tolerance: +/-20ppm; Mounting Technology: SMT; Publisher: Wurth Elektronik
footprint WE-XTAL_CFPX-180
pins: 1 Crystal, 2 GND, 3 Crystal, 4 GND

## 830059643
designator Y?, comment 26MHz, +/-20ppm
WE-XTAL Quartz Crystal, SMT, CFPX-180, 26MHz, +/-20ppm; Part Number: 830059643; Frequency Stability: +/-30ppm; Load Capacitance: 18pF; ComponentLink1Description: Manufacturer; ComponentLink1URL: http://www.we-online.de; ComponentLink2Description: Datasheet; ComponentLink2URL: https://katalog.we-online.com/pbs/datasheet/830059643.pdf; Operating Temperature: -40 to +85degC; Packaging: Tape and Reel; Published Date: November 2019; Size: CFPX-180; Frequency: 26MHz; Frequency Tolerance: +/-20ppm; Mounting Technology: SMT; Publisher: Wurth Elektronik
footprint WE-XTAL_CFPX-180
pins: 1 Crystal, 2 GND, 3 Crystal, 4 GND

## 830059646
designator Y?, comment 30MHz, +/-20ppm
WE-XTAL Quartz Crystal, SMT, CFPX-180, 30MHz, +/-20ppm; Part Number: 830059646; Frequency Stability: +/-30ppm; Load Capacitance: 18pF; ComponentLink1Description: Manufacturer; ComponentLink1URL: http://www.we-online.de; ComponentLink2Description: Datasheet; ComponentLink2URL: https://katalog.we-online.com/pbs/datasheet/830059646.pdf; Operating Temperature: -40 to +85degC; Packaging: Tape and Reel; Published Date: November 2019; Size: CFPX-180; Frequency: 30MHz; Frequency Tolerance: +/-20ppm; Mounting Technology: SMT; Publisher: Wurth Elektronik
footprint WE-XTAL_CFPX-180
pins: 1 Crystal, 2 GND, 3 Crystal, 4 GND

## 830059648
designator Y?, comment 40MHz, +/-20ppm
WE-XTAL Quartz Crystal, SMT, CFPX-180, 40MHz, +/-20ppm; Part Number: 830059648; Frequency Stability: +/-30ppm; Load Capacitance: 18pF; ComponentLink1Description: Manufacturer; ComponentLink1URL: http://www.we-online.de; ComponentLink2Description: Datasheet; ComponentLink2URL: https://katalog.we-online.com/pbs/datasheet/830059648.pdf; Operating Temperature: -40 to +85degC; Packaging: Tape and Reel; Published Date: November 2019; Size: CFPX-180; Frequency: 40MHz; Frequency Tolerance: +/-20ppm; Mounting Technology: SMT; Publisher: Wurth Elektronik
footprint WE-XTAL_CFPX-180
pins: 1 Crystal, 2 GND, 3 Crystal, 4 GND

## 830059800
designator Y?, comment 25MHz, +/-10ppm
WE-XTAL Quartz Crystal, SMT, CFPX-180, 25MHz, +/-10ppm; Part Number: 830059800; Load Capacitance: 10pF; ComponentLink1Description: Manufacturer; ComponentLink1URL: http://www.we-online.de; ComponentLink2Description: Datasheet; ComponentLink2URL: https://katalog.we-online.com/pbs/datasheet/830059800.pdf; Operating Temperature: -10 to +60degC; Packaging: Tape and Reel; Published Date: November 2019; Size: CFPX-180; Frequency Stability: +/-10ppm; Frequency: 25MHz; Frequency Tolerance: +/-10ppm; Mounting Technology: SMT; Publisher: Wurth Elektronik
footprint WE-XTAL_CFPX-180
pins: 1 Crystal, 2 GND, 3 Crystal, 4 GND

## 830060258
designator Y?, comment 32MHz, +/-30ppm
WE-XTAL Quartz Crystal, SMT, CFPX-180, 32MHz, +/-30ppm; Part Number: 830060258; Load Capacitance: 10pF; ComponentLink1Description: Manufacturer; ComponentLink1URL: http://www.we-online.de; ComponentLink2Description: Datasheet; ComponentLink2URL: https://katalog.we-online.com/pbs/datasheet/830060258.pdf; Operating Temperature: -20 to +70degC; Packaging: Tape and Reel; Published Date: November 2019; Size: CFPX-180; Frequency Stability: +/-30ppm; Frequency: 32MHz; Frequency Tolerance: +/-30ppm; Mounting Technology: SMT; Publisher: Wurth Elektronik
footprint WE-XTAL_CFPX-180
pins: 1 Crystal, 2 GND, 3 Crystal, 4 GND

## 830060843
designator Y?, comment 50MHz, +/-25ppm
WE-XTAL Quartz Crystal, SMT, CFPX-180, 50MHz, +/-25ppm; Part Number: 830060843; Load Capacitance: 10pF; ComponentLink1Description: Manufacturer; ComponentLink1URL: http://www.we-online.de; ComponentLink2Description: Datasheet; ComponentLink2URL: https://katalog.we-online.com/pbs/datasheet/830060843.pdf; Operating Temperature: -20 to +70degC; Packaging: Tape and Reel; Published Date: November 2019; Size: CFPX-180; Frequency Stability: +/-25ppm; Frequency: 50MHz; Frequency Tolerance: +/-25ppm; Mounting Technology: SMT; Publisher: Wurth Elektronik
footprint WE-XTAL_CFPX-180
pins: 1 Crystal, 2 GND, 3 Crystal, 4 GND

## 830061647
designator Y?, comment 12MHz, +/-20ppm
WE-XTAL Quartz Crystal, SMT, CFPX-180, 12MHz, +/-20ppm; Part Number: 830061647; Frequency Stability: +/-30ppm; Load Capacitance: 12pF; ComponentLink1Description: Manufacturer; ComponentLink1URL: http://www.we-online.de; ComponentLink2Description: Datasheet; ComponentLink2URL: https://katalog.we-online.com/pbs/datasheet/830061647.pdf; Operating Temperature: -40 to +85degC; Packaging: Tape and Reel; Published Date: November 2019; Size: CFPX-180; Frequency: 12MHz; Frequency Tolerance: +/-20ppm; Mounting Technology: SMT; Publisher: Wurth Elektronik
footprint WE-XTAL_CFPX-180
pins: 1 Crystal, 2 GND, 3 Crystal, 4 GND

## 830061677
designator Y?, comment 32MHz, +/-20ppm
WE-XTAL Quartz Crystal, SMT, CFPX-180, 32MHz, +/-20ppm; Part Number: 830061677; Frequency Stability: +/-30ppm; Load Capacitance: 12pF; ComponentLink1Description: Manufacturer; ComponentLink1URL: http://www.we-online.de; ComponentLink2Description: Datasheet; ComponentLink2URL: https://katalog.we-online.com/pbs/datasheet/830061677.pdf; Operating Temperature: -40 to +85degC; Packaging: Tape and Reel; Published Date: November 2019; Size: CFPX-180; Frequency: 32MHz; Frequency Tolerance: +/-20ppm; Mounting Technology: SMT; Publisher: Wurth Elektronik
footprint WE-XTAL_CFPX-180
pins: 1 Crystal, 2 GND, 3 Crystal, 4 GND

## 830063321
designator Y?, comment 25MHz, +/-20ppm
WE-XTAL Quartz Crystal, SMT, CFPX-180, 25MHz, +/-20ppm; Part Number: 830063321; Frequency Stability: +/-50ppm; Load Capacitance: 18pF; ComponentLink1Description: Manufacturer; ComponentLink1URL: http://www.we-online.de; ComponentLink2Description: Datasheet; ComponentLink2URL: https://katalog.we-online.com/pbs/datasheet/830063321.pdf; Operating Temperature: -40 to +85degC; Packaging: Tape and Reel; Published Date: November 2019; Size: CFPX-180; Frequency: 25MHz; Frequency Tolerance: +/-20ppm; Mounting Technology: SMT; Publisher: Wurth Elektronik
footprint WE-XTAL_CFPX-180
pins: 1 Crystal, 2 GND, 3 Crystal, 4 GND

## 830064296
designator Y?, comment 16MHz, +/-20ppm
WE-XTAL Quartz Crystal, SMT, CFPX-180, 16MHz, +/-20ppm; Part Number: 830064296; Load Capacitance: 8pF; ComponentLink1Description: Manufacturer; ComponentLink1URL: http://www.we-online.de; ComponentLink2Description: Datasheet; ComponentLink2URL: https://katalog.we-online.com/pbs/datasheet/830064296.pdf; Operating Temperature: -10 to +70degC; Packaging: Tape and Reel; Published Date: November 2019; Size: CFPX-180; Frequency Stability: +/-20ppm; Frequency: 16MHz; Frequency Tolerance: +/-20ppm; Mounting Technology: SMT; Publisher: Wurth Elektronik
footprint WE-XTAL_CFPX-180
pins: 1 Crystal, 2 GND, 3 Crystal, 4 GND

## 830064703
designator Y?, comment 24MHz, +/-20ppm
WE-XTAL Quartz Crystal, SMT, CFPX-180, 24MHz, +/-20ppm; Part Number: 830064703; Frequency Stability: +/-50ppm; Load Capacitance: 18pF; ComponentLink1Description: Manufacturer; ComponentLink1URL: http://www.we-online.de; ComponentLink2Description: Datasheet; ComponentLink2URL: https://katalog.we-online.com/pbs/datasheet/830064703.pdf; Operating Temperature: -40 to +85degC; Packaging: Tape and Reel; Published Date: November 2019; Size: CFPX-180; Frequency: 24MHz; Frequency Tolerance: +/-20ppm; Mounting Technology: SMT; Publisher: Wurth Elektronik
footprint WE-XTAL_CFPX-180
pins: 1 Crystal, 2 GND, 3 Crystal, 4 GND

## 830068911
designator Y?, comment 25MHz, +/-30ppm
WE-XTAL Quartz Crystal, SMT, CFPX-180, 25MHz, +/-30ppm; Part Number: 830068911; Frequency Stability: +/-50ppm; Load Capacitance: 18pF; ComponentLink1Description: Manufacturer; ComponentLink1URL: http://www.we-online.de; ComponentLink2Description: Datasheet; ComponentLink2URL: https://katalog.we-online.com/pbs/datasheet/830068911.pdf; Operating Temperature: -20 to +70degC; Packaging: Tape and Reel; Published Date: November 2019; Size: CFPX-180; Frequency: 25MHz; Frequency Tolerance: +/-30ppm; Mounting Technology: SMT; Publisher: Wurth Elektronik
footprint WE-XTAL_CFPX-180
pins: 1 Crystal, 2 GND, 3 Crystal, 4 GND

## 830069377
designator Y?, comment 32MHz, +/-20ppm
WE-XTAL Quartz Crystal, SMT, CFPX-180, 32MHz, +/-20ppm; Part Number: 830069377; Frequency Stability: +/-30ppm; Load Capacitance: 18pF; ComponentLink1Description: Manufacturer; ComponentLink1URL: http://www.we-online.de; ComponentLink2Description: Datasheet; ComponentLink2URL: https://katalog.we-online.com/pbs/datasheet/830069377.pdf; Operating Temperature: -40 to +85degC; Packaging: Tape and Reel; Published Date: November 2019; Size: CFPX-180; Frequency: 32MHz; Frequency Tolerance: +/-20ppm; Mounting Technology: SMT; Publisher: Wurth Elektronik
footprint WE-XTAL_CFPX-180
pins: 1 Crystal, 2 GND, 3 Crystal, 4 GND

## 830069882
designator Y?, comment 12MHz, +/-30ppm
WE-XTAL Quartz Crystal, SMT, CFPX-180, 12MHz, +/-30ppm; Part Number: 830069882; Frequency Stability: +/-100ppm; Load Capacitance: 10pF; ComponentLink1Description: Manufacturer; ComponentLink1URL: http://www.we-online.de; ComponentLink2Description: Datasheet; ComponentLink2URL: https://katalog.we-online.com/pbs/datasheet/830069882.pdf; Operating Temperature: -40 to +125degC; Packaging: Tape and Reel; Published Date: November 2019; Size: CFPX-180; Frequency: 12MHz; Frequency Tolerance: +/-30ppm; Mounting Technology: SMT; Publisher: Wurth Elektronik
footprint WE-XTAL_CFPX-180
pins: 1 Crystal, 2 GND, 3 Crystal, 4 GND

## 830069944
designator Y?, comment 12MHz, +/-20ppm
WE-XTAL Quartz Crystal, SMT, CFPX-180, 12MHz, +/-20ppm; Part Number: 830069944; Frequency Stability: +/-30ppm; Load Capacitance: 15pF; ComponentLink1Description: Manufacturer; ComponentLink1URL: http://www.we-online.de; ComponentLink2Description: Datasheet; ComponentLink2URL: https://katalog.we-online.com/pbs/datasheet/830069944.pdf; Operating Temperature: -40 to +85degC; Packaging: Tape and Reel; Published Date: November 2019; Size: CFPX-180; Frequency: 12MHz; Frequency Tolerance: +/-20ppm; Mounting Technology: SMT; Publisher: Wurth Elektronik
footprint WE-XTAL_CFPX-180
pins: 1 Crystal, 2 GND, 3 Crystal, 4 GND

## 830070868
designator Y?, comment 12MHz, +/-10ppm
WE-XTAL Quartz Crystal, SMT, CFPX-180, 12MHz, +/-10ppm; Part Number: 830070868; Frequency Stability: +/-20ppm; Load Capacitance: 18pF; ComponentLink1Description: Manufacturer; ComponentLink1URL: http://www.we-online.de; ComponentLink2Description: Datasheet; ComponentLink2URL: https://katalog.we-online.com/pbs/datasheet/830070868.pdf; Operating Temperature: -40 to +85degC; Packaging: Tape and Reel; Published Date: November 2019; Size: CFPX-180; Frequency: 12MHz; Frequency Tolerance: +/-10ppm; Mounting Technology: SMT; Publisher: Wurth Elektronik
footprint WE-XTAL_CFPX-180
pins: 1 Crystal, 2 GND, 3 Crystal, 4 GND

## 830072604
designator Y?, comment 25MHz, +/-10ppm
WE-XTAL Quartz Crystal, SMT, CFPX-180, 25MHz, +/-10ppm; Part Number: 830072604; Frequency Stability: +/-20ppm; Load Capacitance: 8pF; ComponentLink1Description: Manufacturer; ComponentLink1URL: http://www.we-online.de; ComponentLink2Description: Datasheet; ComponentLink2URL: https://katalog.we-online.com/pbs/datasheet/830072604.pdf; Operating Temperature: -40 to +85degC; Packaging: Tape and Reel; Published Date: November 2019; Size: CFPX-180; Frequency: 25MHz; Frequency Tolerance: +/-10ppm; Mounting Technology: SMT; Publisher: Wurth Elektronik
footprint WE-XTAL_CFPX-180
pins: 1 Crystal, 2 GND, 3 Crystal, 4 GND

## 830100965009
designator Y?, comment 16MHz, +/-10ppm
WE-XTAL Quartz Crystal, SMT, CFPX-180, 16MHz, +/-10ppm; Part Number: 830100965009; Frequency Stability: +/-20ppm; Load Capacitance: 16pF; ComponentLink1Description: Manufacturer; ComponentLink1URL: http://www.we-online.de; ComponentLink2Description: Datasheet; ComponentLink2URL: https://katalog.we-online.com/pbs/datasheet/830100965009.pdf; Operating Temperature: -40 to +85degC; Packaging: Tape and Reel; Published Date: November 2019; Size: CFPX-180; Frequency: 16MHz; Frequency Tolerance: +/-10ppm; Mounting Technology: SMT; Publisher: Wurth Elektronik
footprint WE-XTAL_CFPX-180
pins: 1 Crystal, 2 GND, 3 Crystal, 4 GND

## 830103552209
designator Y?, comment 32MHz, +/-10ppm
WE-XTAL Quartz Crystal, SMT, CFPX-180, 32MHz, +/-10ppm; Part Number: 830103552209; Frequency Stability: +/-20ppm; Load Capacitance: 9pF; ComponentLink1Description: Manufacturer; ComponentLink1URL: http://www.we-online.de; ComponentLink2Description: Datasheet; ComponentLink2URL: https://katalog.we-online.com/pbs/datasheet/830103552209.pdf; Operating Temperature: -40 to +85degC; Packaging: Tape and Reel; Published Date: November 2019; Size: CFPX-180; Frequency: 32MHz; Frequency Tolerance: +/-10ppm; Mounting Technology: SMT; Publisher: Wurth Elektronik
footprint WE-XTAL_CFPX-180
pins: 1 Crystal, 2 GND, 3 Crystal, 4 GND

## 830103622909
designator Y?, comment 32MHz, +/-10ppm
WE-XTAL Quartz Crystal, SMT, CFPX-180, 32MHz, +/-10ppm; Part Number: 830103622909; Frequency Stability: +/-15ppm; Load Capacitance: 9pF; ComponentLink1Description: Manufacturer; ComponentLink1URL: http://www.we-online.de; ComponentLink2Description: Datasheet; ComponentLink2URL: https://katalog.we-online.com/pbs/datasheet/830103622909.pdf; Operating Temperature: -40 to +85degC; Packaging: Tape and Reel; Published Date: November 2019; Size: CFPX-180; Frequency: 32MHz; Frequency Tolerance: +/-10ppm; Mounting Technology: SMT; Publisher: Wurth Elektronik
footprint WE-XTAL_CFPX-180
pins: 1 Crystal, 2 GND, 3 Crystal, 4 GND

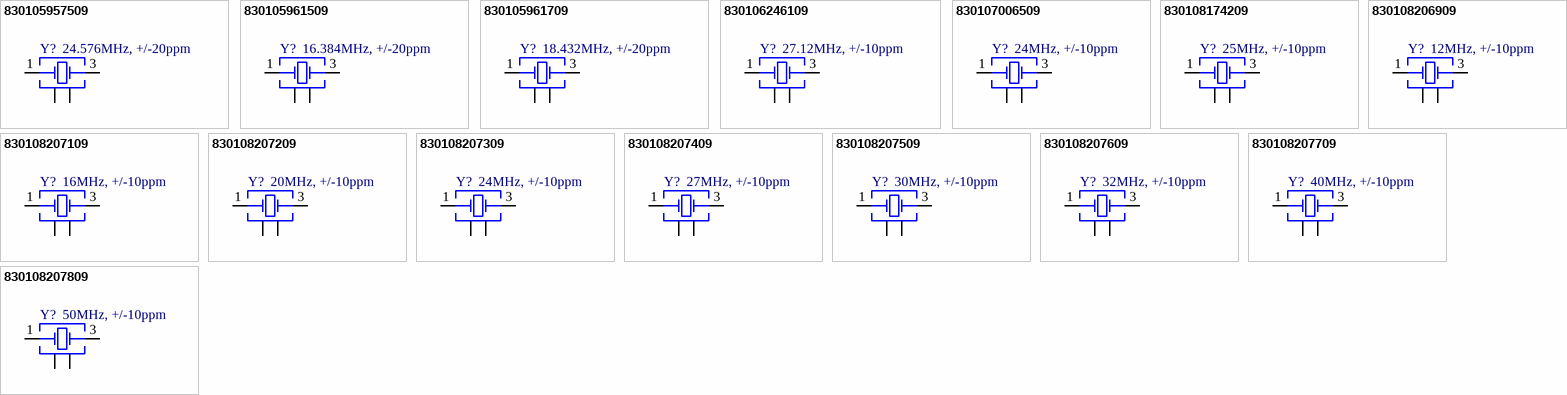
[diagram p11: symbols 830105957509 to 830108207809]

## 830105957509
designator Y?, comment 24.576MHz, +/-20ppm
WE-XTAL Quartz Crystal, SMT, CFPX-180, 24.576MHz, +/-20ppm; Part Number: 830105957509; Frequency Stability: +/-30ppm; Load Capacitance: 18pF; ComponentLink1Description: Manufacturer; ComponentLink1URL: http://www.we-online.de; ComponentLink2Description: Datasheet; ComponentLink2URL: https://katalog.we-online.com/pbs/datasheet/830105957509.pdf; Operating Temperature: -40 to +85degC; Packaging: Tape and Reel; Published Date: November 2019; Size: CFPX-180; Frequency: 24.576MHz; Frequency Tolerance: +/-20ppm; Mounting Technology: SMT; Publisher: Wurth Elektronik
footprint WE-XTAL_CFPX-180
pins: 1 Crystal, 2 GND, 3 Crystal, 4 GND

## 830105961509
designator Y?, comment 16.384MHz, +/-20ppm
WE-XTAL Quartz Crystal, SMT, CFPX-180, 16.384MHz, +/-20ppm; Part Number: 830105961509; Frequency Stability: +/-30ppm; Load Capacitance: 18pF; ComponentLink1Description: Manufacturer; ComponentLink1URL: http://www.we-online.de; ComponentLink2Description: Datasheet; ComponentLink2URL: https://katalog.we-online.com/pbs/datasheet/830105961509.pdf; Operating Temperature: -40 to +85degC; Packaging: Tape and Reel; Published Date: November 2019; Size: CFPX-180; Frequency: 16.384MHz; Frequency Tolerance: +/-20ppm; Mounting Technology: SMT; Publisher: Wurth Elektronik
footprint WE-XTAL_CFPX-180
pins: 1 Crystal, 2 GND, 3 Crystal, 4 GND

## 830105961709
designator Y?, comment 18.432MHz, +/-20ppm
WE-XTAL Quartz Crystal, SMT, CFPX-180, 18.432MHz, +/-20ppm; Part Number: 830105961709; Frequency Stability: +/-30ppm; Load Capacitance: 18pF; ComponentLink1Description: Manufacturer; ComponentLink1URL: http://www.we-online.de; ComponentLink2Description: Datasheet; ComponentLink2URL: https://katalog.we-online.com/pbs/datasheet/830105961709.pdf; Operating Temperature: -40 to +85degC; Packaging: Tape and Reel; Published Date: November 2019; Size: CFPX-180; Frequency: 18.432MHz; Frequency Tolerance: +/-20ppm; Mounting Technology: SMT; Publisher: Wurth Elektronik
footprint WE-XTAL_CFPX-180
pins: 1 Crystal, 2 GND, 3 Crystal, 4 GND

## 830106246109
designator Y?, comment 27.12MHz, +/-10ppm
WE-XTAL Quartz Crystal, SMT, CFPX-180, 27.12MHz, +/-10ppm; Part Number: 830106246109; Frequency Stability: +/-20ppm; Load Capacitance: 10pF; ComponentLink1Description: Manufacturer; ComponentLink1URL: http://www.we-online.de; ComponentLink2Description: Datasheet; ComponentLink2URL: https://katalog.we-online.com/pbs/datasheet/830106246109.pdf; Operating Temperature: -40 to +85degC; Packaging: Tape and Reel; Published Date: November 2019; Size: CFPX-180; Frequency: 27.12MHz; Frequency Tolerance: +/-10ppm; Mounting Technology: SMT; Publisher: Wurth Elektronik
footprint WE-XTAL_CFPX-180
pins: 1 Crystal, 2 GND, 3 Crystal, 4 GND

## 830107006509
designator Y?, comment 24MHz, +/-10ppm
WE-XTAL Quartz Crystal, SMT, CFPX-180, 24MHz, +/-10ppm; Part Number: 830107006509; Frequency Stability: +/-15ppm; Load Capacitance: 9pF; ComponentLink1Description: Manufacturer; ComponentLink1URL: http://www.we-online.de; ComponentLink2Description: Datasheet; ComponentLink2URL: https://katalog.we-online.com/pbs/datasheet/830107006509.pdf; Operating Temperature: -40 to +85degC; Packaging: Tape and Reel; Published Date: November 2019; Size: CFPX-180; Frequency: 24MHz; Frequency Tolerance: +/-10ppm; Mounting Technology: SMT; Publisher: Wurth Elektronik
footprint WE-XTAL_CFPX-180
pins: 1 Crystal, 2 GND, 3 Crystal, 4 GND

## 830108174209
designator Y?, comment 25MHz, +/-10ppm
WE-XTAL Quartz Crystal, SMT, CFPX-180, 25MHz, +/-10ppm; Part Number: 830108174209; Frequency Stability: +/-15ppm; Load Capacitance: 10pF; ComponentLink1Description: Manufacturer; ComponentLink1URL: http://www.we-online.de; ComponentLink2Description: Datasheet; ComponentLink2URL: https://katalog.we-online.com/pbs/datasheet/830108174209.pdf; Operating Temperature: -40 to +85degC; Packaging: Tape and Reel; Published Date: November 2019; Size: CFPX-180; Frequency: 25MHz; Frequency Tolerance: +/-10ppm; Mounting Technology: SMT; Publisher: Wurth Elektronik
footprint WE-XTAL_CFPX-180
pins: 1 Crystal, 2 GND, 3 Crystal, 4 GND